# Altium schematic symbol library CSDCPowerLib.SchLib: 2 symbols
Pins are listed as number, name and electrical type; pins without a type are passive.

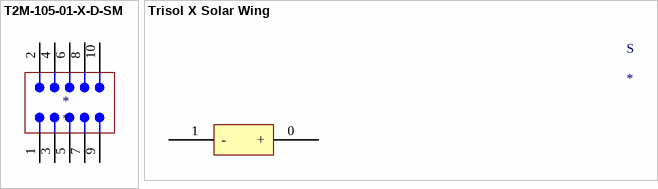
[diagram p0: symbols T2M-105-01-X-D-SM to Trisol X Solar Wing]

## T2M-105-01-X-D-SM
designator *
footprint T2M-105-01-X-D-SM
pins: 1  , 2  , 3  , 4  , 5  , 6  , 7  , 8  , 9  , 10  

## Trisol X Solar Wing
designator S
footprint PCBComponent_1
pins: 0 +, 1 -